# EAGLE library part HC-05 (library wsc)
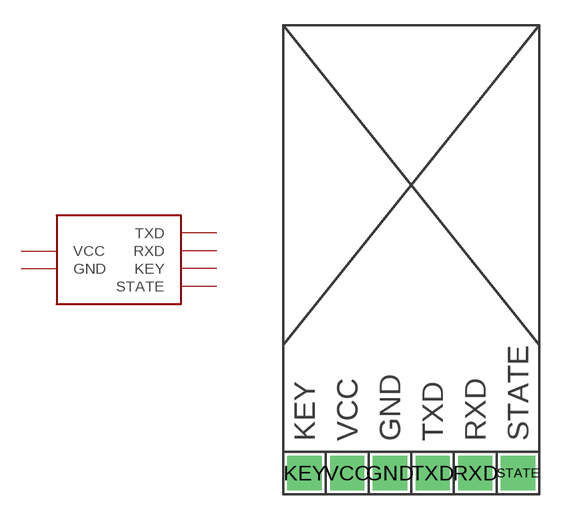
[diagram p82: symbol with the pads of HC-05; footprint HC-05]

Designator prefix U

## HC-05  [HC-05]
GND  GND  pwr
KEY  KEY
RXD  RXD
STATE  STATE
TXD  TXD
VCC  VCC  pwr

## Footprint HC-05 (pad centres in mm)
drill 0.914 pad 2.032 square: GND -1.27,-12.7; KEY -6.35,-12.7; RXD 3.81,-12.7; STATE 6.35,-12.7; TXD 1.27,-12.7; VCC -3.81,-12.7